# Altium footprint library PCB - LEADLESS - QFN - ONSEMI QFN15 4X4 CASE 485FN B.PcbLib: 1 footprints
Each footprint in its own frame and in the unit in brackets; x right, y up, seen from the top. Pads: shape width x height; smd on the part's side, far side on the other; paste and mask are expansions set on the pad; w line width, h text height; cw(c..) or ccw(c..) is an arc to the next point about the centre after c.
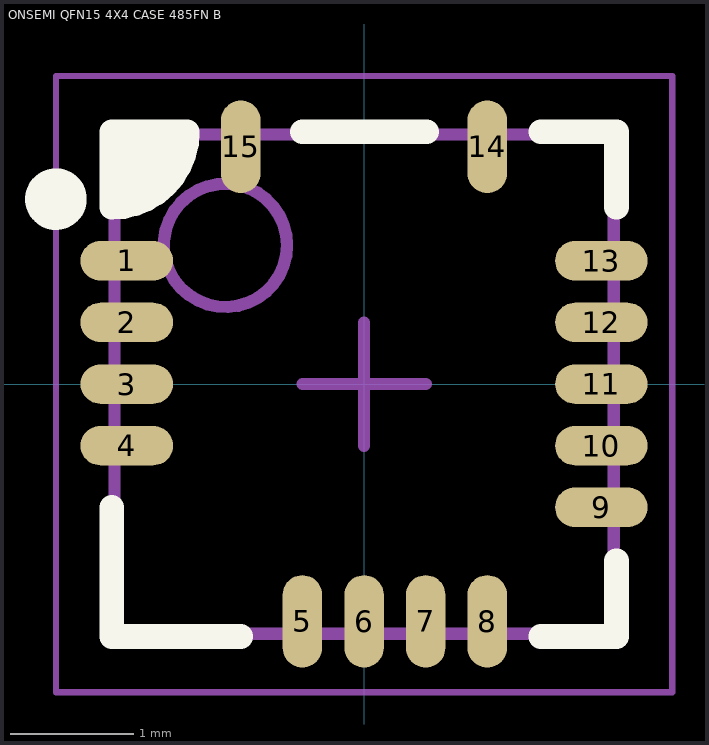
[diagram p0: the footprint, top view; thin cyan lines are the x and y axes]

## ONSEMI QFN15 4X4 CASE 485FN B [mm] "QFN, 20-Leads, Body 4.00x4.00mm, Pitch 0.50mm, IPC Medium Density"
height 0.9
pads (15):
  oval 0.75x0.32 smd: 1(-1.925,1) 2(-1.925,0.5) 3(-1.925,0) 4(-1.925,-0.5) 9(1.925,-1) 10(1.925,-0.5) 11(1.925,0) 12(1.925,0.5) 13(1.925,1)
  oval 0.32x0.75 smd: 5(-0.5,-1.925) 6(0,-1.925) 7(0.5,-1.925) 8(1,-1.925) 14(1,1.925) 15(-1,1.925)
Top Overlay:
  circle w0.25: c-2.5,1.5 r0.125
  region: -1.433,2.048 -2.048,2.048 -2.048,1.433 -1.6,1.6
  lines w0.2: -2.048,-1 -2.048,-2.048 -1,-2.048 ; -0.5,2.048 0.508,2.048 ; 1.433,-2.048 2.048,-2.048 2.048,-1.433 ; 1.433,2.048 2.048,2.048 2.048,1.433 ; -2.048,1.433 ccw(c-2.048,2.048) -1.433,2.048 -2.048,2.048 -2.048,1.433
Mechanical 13:
  circle w0.1: c-1.125,1.125 r0.5
  lines w0.1: -2.025,-2.025 -2.025,2.025 2.025,2.025 2.025,-2.025 -2.025,-2.025
Mechanical 15:
  lines w0.05: -2.5,-2.5 -2.5,2.5 2.5,2.5 2.5,-2.5 -2.5,-2.5
  lines w0.1: -0.5,0 0.5,0 ; 0,-0.5 0,0.5
3D body "ONSEMI QFN15 4X4 CASE 485FN B.step": height 0.9, standoff 0, extent -2.026,-2.026 2.026,2.026